# Altium footprint library 2Pin.PcbLib: 1 footprints
Each footprint in its own frame and in the unit in brackets; x right, y up, seen from the top. Pads: shape width x height; smd on the part's side, far side on the other; paste and mask are expansions set on the pad; w line width, h text height; cw(c..) or ccw(c..) is an arc to the next point about the centre after c.
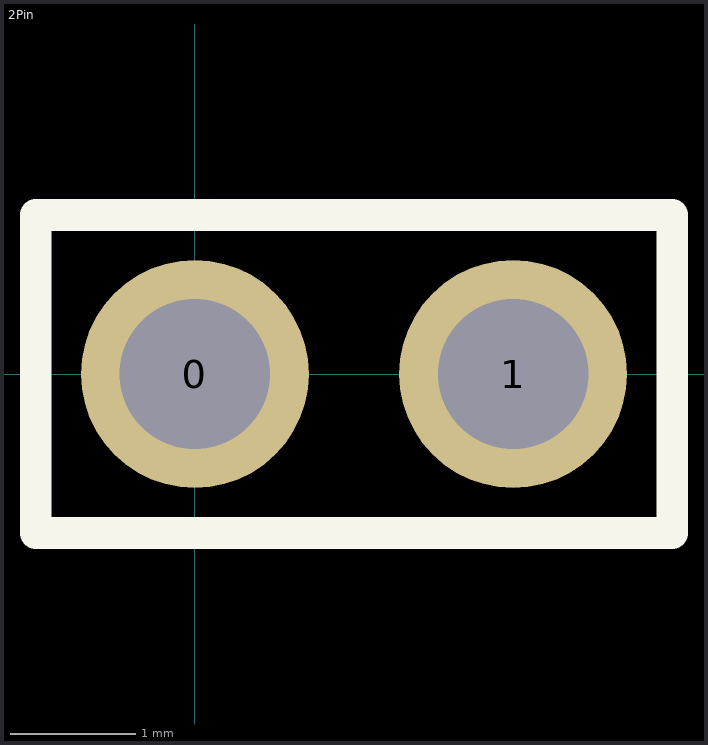
[diagram p0: the footprint, top view; thin cyan lines are the x and y axes]

## 2Pin [mm]
pads (2):
  round 1.82 hole 1.2: 0(0,0) 1(2.54,0)
Top Overlay:
  lines w0.254: -1.27,-1.27 -1.27,1.27 3.81,1.27 3.81,-1.27 -1.27,-1.27
3D body "1x1 connector v4.step": height 8.54, standoff -3, extent 1.27,-1.19 3.791,1.27
3D body "1x1 connector v4.step": height 8.54, standoff -3, extent -1.27,-1.19 1.251,1.27